# EAGLE library part 653006114822 (library Wire-to-Board (rev18a))
WR-WTB 1.25mm Male Vertical Shrouded Header,6 Pins=>Code : Con_WTB_1.25_PCB_THT_653006114822 <http://katalog.we-online.de/media/thumbs2/eican/thb_Con_WTB_1.25_PCB_THT_6530xx114822_pf2.jpg> Details see: http://katalog.we-online.de/en/em/WTB_1_25_MALE_VERTICAL_SHROUDED_HEADER_6530XX114822 Created 2014-06-06, Karrer Zheng 2014 (C) Würth Elektronik
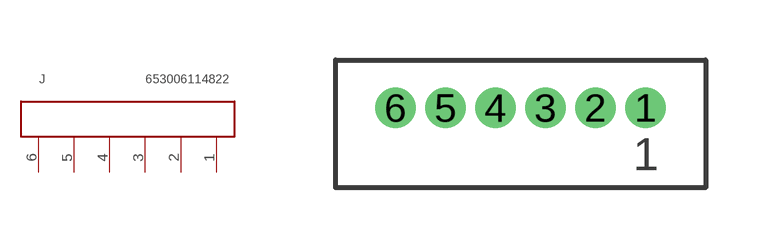
[diagram p81: symbol with the pads of 653006114822; footprint 653006114822]

Designator prefix J

## 653006114822  [653006114822]
1  1  pas
2  2  pas
3  3  pas
4  4  pas
5  5  pas
6  6  pas

## Footprint 653006114822 (pad centres in mm)
WR-WTB 1.25mm Male Vertical Shrouded Header, 6 Pins
drill 0.5: 1 3.125,0; 2 1.875,0; 3 0.625,0; 4 -0.625,0; 5 -1.875,0; 6 -3.125,0